# EAGLE library part EA_OLEDM128-6 (library ea_v66)
ELECTRONIC ASSEMBLY EA OLEDM128-6LGA EA OLEDM128-6LWA EA OLEDM128-6GGA
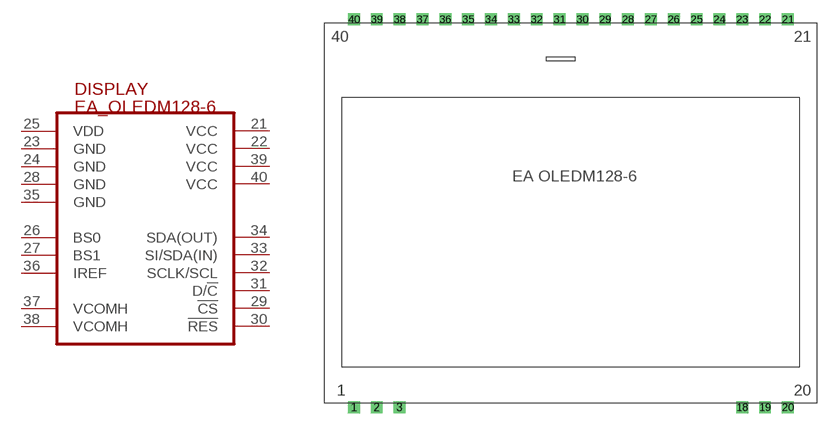
[diagram p18: symbol with the pads of EA_OLEDM128-6; footprint EA_OLEDM128-6]

Designator prefix DISPLAY

## EA_OLEDM128-6  [EA_OLEDM128-6]
21  VCC  pwr
22  VCC  pwr
23  GND  pwr
24  GND  pwr
25  VDD  pwr
26  BS0  in
27  BS1  in
28  GND  pwr
29  !CS!  in
30  !RES!  in
31  D/!C!  in
32  SCLK/SCL  in
33  SI/SDA(IN)  in
34  SDA(OUT)  out
35  GND  pwr
36  IREF  pas
37  VCOMH  pas
38  VCOMH  pas
39  VCC  pwr
40  VCC  pwr

## Footprint EA_OLEDM128-6 (pad centres in mm)
drill 0.813 square: 1 0,0; 2 2.54,0; 3 5.08,0; 18 43.18,0; 19 45.72,0; 20 48.26,0; 21 48.26,43.18; 22 45.72,43.18; 23 43.18,43.18; 24 40.64,43.18; 25 38.1,43.18; 26 35.56,43.18; 27 33.02,43.18; 28 30.48,43.18; 29 27.94,43.18; 30 25.4,43.18; 31 22.86,43.18; 32 20.32,43.18; 33 17.78,43.18; 34 15.24,43.18; 35 12.7,43.18; 36 10.16,43.18; 37 7.62,43.18; 38 5.08,43.18; 39 2.54,43.18; 40 0,43.18